# Altium schematic symbol library giro-stable.SchLib: 25 symbols
Pins are listed as number, name and electrical type; pins without a type are passive.

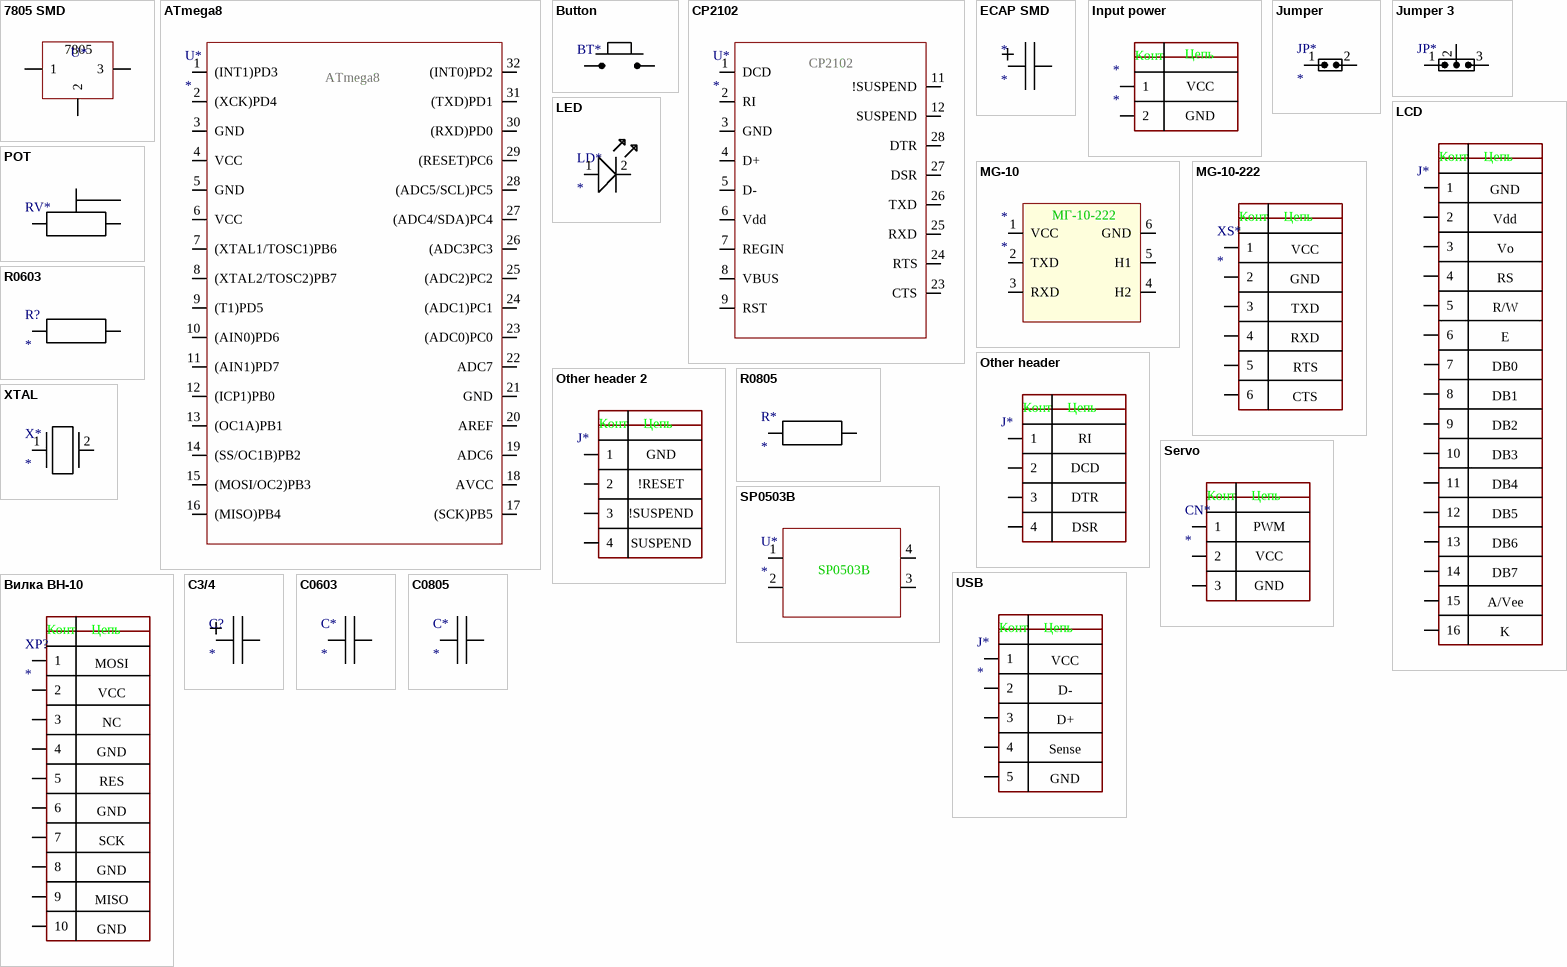
[diagram p0: symbols 7805 SMD to С0805]

## 7805 SMD
designator U*  (value not drawn)
footprint 7805 SMD
pins: 1, 2, 3
text: 7805

## ATmega8
designator U*
footprint ATmega8
pins: 1 (INT1)PD3, 2 (XCK)PD4, 3 GND, 4 VCC, 5 GND, 6 VCC, 7 (XTAL1/TOSC1)PB6, 8 (XTAL2/TOSC2)PB7, 9 (T1)PD5, 10 (AIN0)PD6, 11 (AIN1)PD7, 12 (ICP1)PB0, 13 (OC1A)PB1, 14 (SS/OC1B)PB2, 15 (MOSI/OC2)PB3, 16 (MISO)PB4, 17 (SCK)PB5, 18 AVCC, 19 ADC6, 20 AREF, 21 GND, 22 ADC7, 23 (ADC0)PC0, 24 (ADC1)PC1, 25 (ADC2)PC2, 26 (ADC3PC3, 27 (ADC4/SDA)PC4, 28 (ADC5/SCL)PC5, 29 (RESET)PC6, 30 (RXD)PD0, 31 (TXD)PD1, 32 (INT0)PD2

## Button
designator BT*  (value not drawn)
footprint Button 5x5
pins: 1, 2

## CP2102
designator U*
footprint CP2102
pins: 1 DCD, 2 RI, 3 GND, 4 D+, 5 D-, 6 Vdd, 7 REGIN, 8 VBUS, 9 RST, 11 !SUSPEND, 12 SUSPEND, 23 CTS, 24 RTS, 25 RXD, 26 TXD, 27 DSR, 28 DTR

## ECAP SMD
designator *
pins: 1, 2

## Input power
designator *
footprint Input power
pins: 1, 2
text: Конт; Цепь; VCC; GND

## Jumper
designator JP*
footprint Jumper
pins: 1, 2

## Jumper 3
designator JP*  (value not drawn)
footprint JUMPER 3
pins: 1, 2, 3

## LCD
designator J*  (value not drawn)
footprint LCD
pins: 1, 2, 3, 4, 5, 6, 7, 8, 9, 10, 11, 12, 13, 14, 15, 16
text: Конт; Цепь; GND; Vdd; Vo; RS; R/W; E; DB0; DB1; DB2; DB3; DB4; DB5; DB6; DB7; A/Vee; K

## LED
designator LD*
footprint LED
pins: 1, 2

## MG-10
designator *
pins: 1 VCC, 2 TXD, 3 RXD, 4 H2, 5 H1, 6 GND
text: МГ-10-222

## MG-10-222
designator XS*
footprint DS1022 1x6
pins: 1, 2, 3, 4, 5, 6
text: Конт; Цепь; VCC; GND; TXD; RXD; RTS; CTS

## Other header
designator J*  (value not drawn)
footprint Other header
pins: 1, 2, 3, 4
text: Конт; Цепь; RI; DCD; DTR; DSR

## Other header 2
designator J*  (value not drawn)
footprint Other header
pins: 1, 2, 3, 4
text: Конт; Цепь; GND; !RESET; !SUSPEND; SUSPEND

## POT
designator RV*  (value not drawn)
footprint POT
pins: 1, 2, 3

## R0603
designator R?
footprint R0603
pins: 1, 2

## R0805
designator R*
footprint 0805
pins: 1, 2

## Servo
designator CN*
footprint DS1022 1x3
pins: 1, 2, 3
text: Конт; Цепь; PWM; VCC; GND

## SP0503B
designator U*
TO-253
footprint SP0503B (TO-253)
pins: 1, 2, 3, 4

## USB
designator J*
pins: 1, 2, 3, 4, 5
text: Конт; Цепь; VCC; D-; D+; Sense; GND

## XTAL
designator X*
footprint HC-49SM
pins: 1, 2

## Вилка ВН-10
designator XP?
footprint Вилка ВН-10
pins: 1, 2, 3, 4, 5, 6, 7, 8, 9, 10
text: Конт; Цепь; MOSI; VCC; NC; GND; RES; SCK; MISO

## С3/4
designator C?
footprint A
pins: 1, 2

## С0603
designator C*
footprint R0603
pins: 1, 2

## С0805
designator C*
footprint 0805
pins: 1, 2